# EAGLE library part SIM_HOLDER-FULL (library custom)
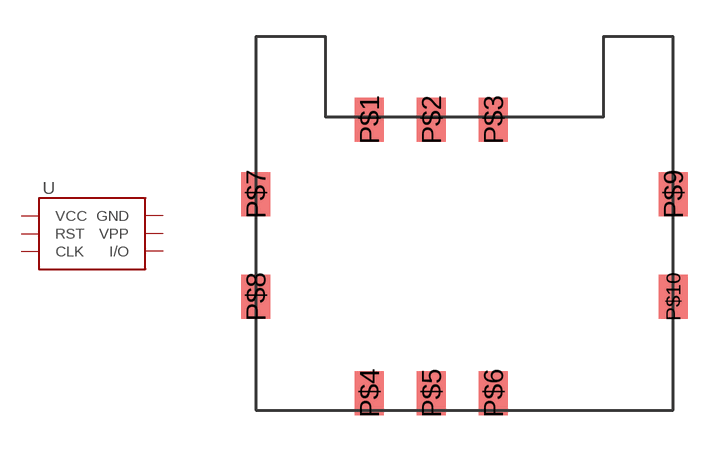
[diagram p0: symbol with the pads of SIM_HOLDER-FULL; footprint SIM_HOLDER-FULL]

Designator prefix U

## SIM_HOLDER-FULL  [SIM_HOLDER-FULL]
P$1  VCC  pwr
P$2  RST  in
P$3  CLK  in
P$4  GND  pwr
P$5  VPP  in
P$6  I/O

## Footprint SIM_HOLDER-FULL (pad centres in mm)
smd 1.2 x 1.8: P$1 -2.97,5.55; P$2 -0.43,5.55; P$3 2.11,5.55; P$4 -2.97,-5.65; P$5 -0.43,-5.65; P$6 2.11,-5.65; P$7 -7.62,2.5; P$8 -7.62,-1.7; P$9 9.48,2.5; P$10 9.48,-1.7